# EAGLE library part 74LVC3G07DP,125 (library mbed-HDK-IC)
IC BUFFER TRPL OP/DRAIN 8TSSOP
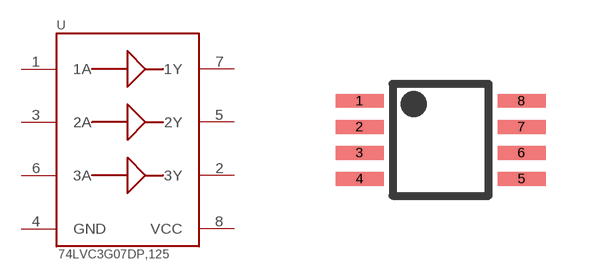
[diagram p14: symbol with the pads of TSSOP8; footprint TSSOP8]

Designator prefix U

## 74LVC3G07DP,125 (MF: NXP; MFN: 74LVC3G07DP,125; OC-DIGIKEY: 1727-6684-1-ND; OC-MOUSER: 771-74LVC3G07DP-G; OC-NEWARK: 71R3483)  [TSSOP8]
1  1A
2  3Y
3  2A
4  GND
5  2Y
6  3A
7  1Y
8  VCC

## Footprint TSSOP8 (pad centres in mm)
Plastic Small Outline
smd 1.2 x 0.35: 1 -2.025,0.975; 2 -2.025,0.325; 3 -2.025,-0.325; 4 -2.025,-0.975; 5 2.025,-0.975; 6 2.025,-0.325; 7 2.025,0.325; 8 2.025,0.975